# EAGLE library part RPIPICO_RASPBERRY_PICO (library OSO-BOOK-C3-00)
Raspberry Pi Pico
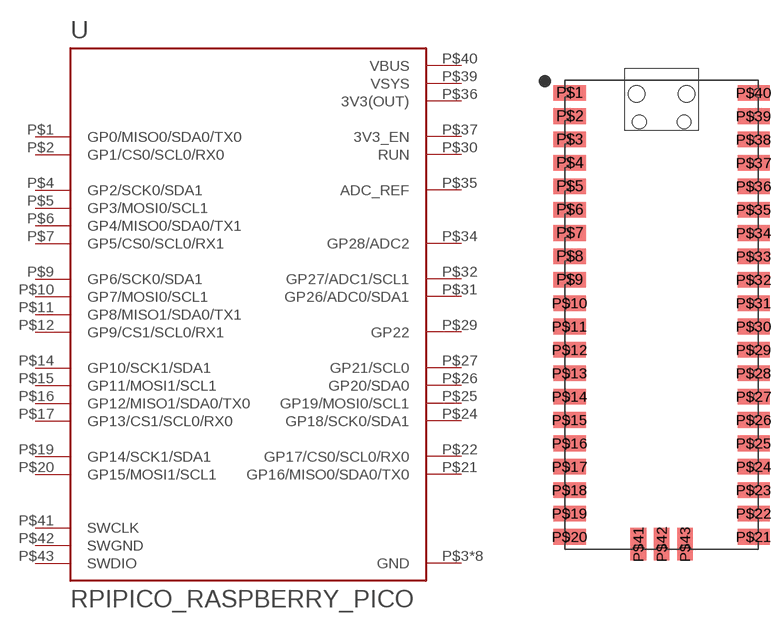
[diagram p5: symbol with the pads of RPIPICO_PICO-PKG-SMD; footprint RPIPICO_PICO-PKG-SMD]

Designator prefix U

## RPIPICO_RASPBERRY_PICOSMD  [RPIPICO_PICO-PKG-SMD]
P$1  GP0/MISO0/SDA0/TX0
P$2  GP1/CS0/SCL0/RX0
P$3  GND  pwr
P$4  GP2/SCK0/SDA1
P$5  GP3/MOSI0/SCL1
P$6  GP4/MISO0/SDA0/TX1
P$7  GP5/CS0/SCL0/RX1
P$8  GND  pwr
P$9  GP6/SCK0/SDA1
P$10  GP7/MOSI0/SCL1
P$11  GP8/MISO1/SDA0/TX1
P$12  GP9/CS1/SCL0/RX1
P$13  GND  pwr
P$14  GP10/SCK1/SDA1
P$15  GP11/MOSI1/SCL1
P$16  GP12/MISO1/SDA0/TX0
P$17  GP13/CS1/SCL0/RX0
P$18  GND  pwr
P$19  GP14/SCK1/SDA1
P$20  GP15/MOSI1/SCL1
P$21  GP16/MISO0/SDA0/TX0
P$22  GP17/CS0/SCL0/RX0
P$23  GND  pwr
P$24  GP18/SCK0/SDA1
P$25  GP19/MOSI0/SCL1
P$26  GP20/SDA0
P$27  GP21/SCL0
P$28  GND  pwr
P$29  GP22
P$30  RUN  in
P$31  GP26/ADC0/SDA1
P$32  GP27/ADC1/SCL1
P$33  GND  pwr
P$34  GP28/ADC2
P$35  ADC_REF  in
P$36  3V3(OUT)  pwr
P$37  3V3_EN  in
P$38  GND  pwr
P$39  VSYS  pwr
P$40  VBUS  pwr
P$41  SWCLK  in
P$42  SWGND  pwr
P$43  SWDIO

## Footprint RPIPICO_PICO-PKG-SMD (pad centres in mm)
smd 3.5 x 1.7: P$1 -10,24.13; P$2 -10,21.59; P$3 -10,19.05; P$4 -10,16.51; P$5 -10,13.97; P$6 -10,11.43; P$7 -10,8.89; P$8 -10,6.35; P$9 -10,3.81; P$10 -10,1.27; P$11 -10,-1.27; P$12 -10,-3.81; P$13 -10,-6.35; P$14 -10,-8.89; P$15 -10,-11.43; P$16 -10,-13.97; P$17 -10,-16.51; P$18 -10,-19.05; P$19 -10,-21.59; P$20 -10,-24.13; P$21 10,-24.13; P$22 10,-21.59; P$23 10,-19.05; P$24 10,-16.51; P$25 10,-13.97; P$26 10,-11.43; P$27 10,-8.89; P$28 10,-6.35; P$29 10,-3.81; P$30 10,-1.27; P$31 10,1.27; P$32 10,3.81; P$33 10,6.35; P$34 10,8.89; P$35 10,11.43; P$36 10,13.97; P$37 10,16.51; P$38 10,19.05; P$39 10,21.59; P$40 10,24.13
smd 1.7 x 3.5: P$41 -2.54,-24.925; P$42 0,-24.925; P$43 2.54,-24.925
hole 1.8 at -2.725,24
hole 1.8 at 2.725,24
hole 1.5 at -2.425,20.97
hole 1.5 at 2.425,20.97